# Altium schematic symbol library aiskylab-06IC-01Linear.SchLib: 5 symbols
Pins are listed as number, name and electrical type; pins without a type are passive.

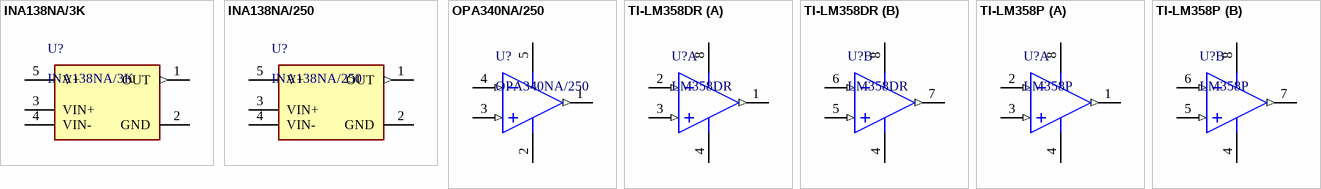
[diagram p0: symbols INA138NA/3K to TI-LM358P]

## INA138NA/3K
designator U?
SP Amp Current Sense Amp Single 36V 5-Pin SOT-23 T/R; Manufacturer: Texas Instruments; Min Supply Voltage: 2.7V; Accuracy: 0.5%; Number of Channels: 1; Common Mode Rejection Ratio: 100dB; Input Offset Voltage (Vos): 1mV; Input Bias Current: 2uA; Bandwidth: 800kHz; Operating Supply Current: 45uA; Supplier 1: Digi-Key; Manufacturer Part Number: INA138NA/3K; RoHS: Yes; Category: Amplifiers - Op Amps, Buffer, Instrumentation; Stock 1: 23833; Pricing 1: 1=1.92000, 10=1.72300, 25=1.62520, 100=1.30000, 250=1.13752, 500=1.10500, 1000=0.87750 (USD); Mount: Surface Mount; Case/Package: SOT-23; Number of Pins: 5; Weight: 0.000617oz; Min Operating Temperature: -40°C; Max Operating Temperature: 125°C; Packaging: Tape and Reel; Max Supply Voltage: 36V; Number of Elements: 1; Max Input Voltage: 36V; Min Input Voltage: 2.7V; Radiation Hardening: No; Lead Free: Lead Free; ComponentLink1URL: https://datasheet.ciiva.com/15128/getdatasheetpartid-247791-15128592.pdf?src-supplier=Verical; ComponentLink1Description: https://datasheet.ciiva.com/15128/getdatasheetpartid-247791-15128592.pdf?src-supplier=Verical; ComponentLink2URL: https://datasheet.ciiva.com/4875/sbos122c-126229-4875393.pdf?src-supplier=Mouser; ComponentLink2Description: https://datasheet.ciiva.com/4875/sbos122c-126229-4875393.pdf?src-supplier=Mouser; ComponentLink3URL: https://datasheet.ciiva.com/27052/1481361-27052273.pdf?src-supplier=Jameco; ComponentLink3Description: https://datasheet.ciiva.com/27052/1481361-27052273.pdf?src-supplier=Jameco; ComponentLink4URL: https://datasheet.ciiva.com/41457/001013568-da-01-en-ic-current-monito-ina138na-3k-sot-5-tid-41457325.pdf?src-supplier=Conrad; ComponentLink4Description: https://datasheet.ciiva.com/41457/001013568-da-01-en-ic-current-monito-ina138na-3k-sot-5-tid-41457325.pdf?src-supplier=Conrad; ComponentLink5URL: https://datasheet.ciiva.com/2975/ina168-2975778.pdf?src-supplier=Avnet; ComponentLink5Description: https://datasheet.ciiva.com/2975/ina168-2975778.pdf?src-supplier=Avnet; ComponentLink6URL: https://datasheet.ciiva.com/2976/ina168-2976437.pdf?src-supplier=Avnet; ComponentLink6Description: https://datasheet.ciiva.com/2976/ina168-2976437.pdf?src-supplier=Avnet; ComponentLink7URL: https://datasheet.ciiva.com/1939/ina138-1939975.pdf?src-supplier=Digi-Key; ComponentLink7Description: https://datasheet.ciiva.com/1939/ina138-1939975.pdf?src-supplier=Digi-Key; ComponentLink8URL: https://datasheet.ciiva.com/1939/ina138-1939976.pdf?src-supplier=Digi-Key; ComponentLink8Description: https://datasheet.ciiva.com/1939/ina138-1939976.pdf?src-supplier=Digi-Key; ComponentLink9URL: https://datasheet.ciiva.com/1939/ina138-1939977.pdf?src-supplier=Digi-Key; ComponentLink9Description: https://datasheet.ciiva.com/1939/ina138-1939977.pdf?src-supplier=Digi-Key; Supplier Part Number 1: 296-17936-1-ND
footprint FP-DBV0005A-IPC_A
footprint FP-DBV0005A-IPC_B
footprint FP-DBV0005A-IPC_C
footprint FP-DBV0005A-MFG
pins: 1 OUT (out), 2 GND (power), 3 VIN+ (power), 4 VIN- (power), 5 V+ (power)

## INA138NA/250
designator U?
TEXAS INSTRUMENTS   INA138NA/250   IC, CURRENT SHUNT MONITOR, FULL REEL; Accuracy: 0.5%; Min Supply Voltage: 2.7V; Max Supply Voltage: 36V; Nominal Supply Current: 25uA; Common Mode Rejection Ratio: 100dB; Number of Channels: 1; Input Offset Voltage (Vos): 1mV; Input Bias Current: 2uA; Bandwidth: 800kHz; Operating Supply Current: 60uA; Supplier 1: Digi-Key; Manufacturer: Texas Instruments; Manufacturer Part Number: INA138NA/250; RoHS: Yes; Category: Amplifiers - Op Amps, Buffer, Instrumentation; Stock 1: 13960; Pricing 1: 1=2.21000, 10=1.98200, 25=1.87000, 100=1.49600 (USD); Mount: Surface Mount; Case/Package: SOT-23; Number of Pins: 5; Weight: 0.000617oz; Min Operating Temperature: -40°C; Max Operating Temperature: 125°C; Packaging: Tape and Reel; Package Quantity: 250; Number of Elements: 1; Number of Amplifiers: 1; Termination: SMD/SMT; Gain Bandwidth Product: 800kHz; Length: 2.9mm; Height: 1.15mm; Width: 1.6mm; Radiation Hardening: No; Lead Free: Lead Free; REACH SVHC: No SVHC; ComponentLink1URL: https://datasheet.ciiva.com/27050/901247-27050771.pdf?src-supplier=Jameco; ComponentLink1Description: https://datasheet.ciiva.com/27050/901247-27050771.pdf?src-supplier=Jameco; ComponentLink2URL: https://datasheet.ciiva.com/15128/getdatasheetpartid-246741-15128581.pdf?src-supplier=Verical; ComponentLink2Description: https://datasheet.ciiva.com/15128/getdatasheetpartid-246741-15128581.pdf?src-supplier=Verical; ComponentLink3URL: https://datasheet.ciiva.com/1484/1786788-1484498.pdf?src-supplier=Element14; ComponentLink3Description: https://datasheet.ciiva.com/1484/1786788-1484498.pdf?src-supplier=Element14; ComponentLink4URL: https://datasheet.ciiva.com/1940/ina138-1940100.pdf?src-supplier=Digi-Key; ComponentLink4Description: https://datasheet.ciiva.com/1940/ina138-1940100.pdf?src-supplier=Digi-Key; ComponentLink5URL: https://datasheet.ciiva.com/1940/ina138-1940098.pdf?src-supplier=Digi-Key; ComponentLink5Description: https://datasheet.ciiva.com/1940/ina138-1940098.pdf?src-supplier=Digi-Key; ComponentLink6URL: https://datasheet.ciiva.com/1940/ina138-1940099.pdf?src-supplier=Digi-Key; ComponentLink6Description: https://datasheet.ciiva.com/1940/ina138-1940099.pdf?src-supplier=Digi-Key; ComponentLink7URL: https://datasheet.ciiva.com/2976/ina168-2976436.pdf?src-supplier=Avnet; ComponentLink7Description: https://datasheet.ciiva.com/2976/ina168-2976436.pdf?src-supplier=Avnet; ComponentLink8URL: https://datasheet.ciiva.com/46407/1786788-46407877.pdf?src-supplier=Element14; ComponentLink8Description: https://datasheet.ciiva.com/46407/1786788-46407877.pdf?src-supplier=Element14; Supplier Part Number 1: INA138NACT-ND
footprint FP-DBV0005A-IPC_A
footprint FP-DBV0005A-IPC_B
footprint FP-DBV0005A-IPC_C
footprint FP-DBV0005A-MFG
pins: 1 OUT (out), 2 GND (power), 3 VIN+ (power), 4 VIN- (power), 5 V+ (power)

## OPA340NA/250
designator U?
GLOVE, POLYAMIDE, L/FREE, PU, SIZE 6 - More Details; Manufacturer: Texas Instruments; Common Mode Rejection Ratio: 80dB; Number of Circuits: 1; Gain Bandwidth Product: 5.5MHz; Voltage Gain: 124dB; Slew Rate: 6V/µs; Input Offset Voltage (Vos): 500uV; Input Bias Current: 10pA; Max Supply Voltage: 5.5V; Min Supply Voltage: 2.5V; Nominal Supply Current: 950uA; Output Current per Channel: 50mA; Power Supply Rejection Ratio (PSRR): 90.46dB; Supplier 1: Digi-Key; Manufacturer Part Number: OPA340NA/250; RoHS: Yes; Category: Amplifiers - Op Amps, Buffer, Instrumentation; Stock 1: 5015; Pricing 1: 1=2.84000, 10=2.54900, 25=2.40520, 100=1.92400 (USD); Case/Package: SOT-23; Number of Pins: 5; Min Operating Temperature: -40°C; Max Operating Temperature: 85°C; Packaging: Tape and Reel; Package Quantity: 250; Number of Channels: 1; Bandwidth: 5.5MHz; Max I/O Voltage: 500uV; Number of Elements: 1; Unity Gain Bandwidth Product: 5.5MHz; Number of Amplifiers: 1; Length: 2.9mm; Height: 1.15mm; Width: 1.6mm; Radiation Hardening: No; Lead Free: Lead Free; REACH SVHC: No SVHC; ComponentLink1URL: https://datasheet.ciiva.com/14667/0900766b802160a6-14667203.pdf?src-supplier=RSComponents; ComponentLink1Description: https://datasheet.ciiva.com/14667/0900766b802160a6-14667203.pdf?src-supplier=RSComponents; ComponentLink2URL: https://datasheet.ciiva.com/7738/1762438-7738624.pdf?src-supplier=Element14; ComponentLink2Description: https://datasheet.ciiva.com/7738/1762438-7738624.pdf?src-supplier=Element14; ComponentLink3URL: https://datasheet.ciiva.com/2974/opa4340-2974001.pdf?src-supplier=Avnet; ComponentLink3Description: https://datasheet.ciiva.com/2974/opa4340-2974001.pdf?src-supplier=Avnet; ComponentLink4URL: https://datasheet.ciiva.com/34301/905272-34301714.pdf?src-supplier=Jameco; ComponentLink4Description: https://datasheet.ciiva.com/34301/905272-34301714.pdf?src-supplier=Jameco; ComponentLink5URL: https://datasheet.ciiva.com/2974/opa4340-2974002.pdf?src-supplier=Avnet; ComponentLink5Description: https://datasheet.ciiva.com/2974/opa4340-2974002.pdf?src-supplier=Avnet; ComponentLink6URL: https://datasheet.ciiva.com/22700/1882729-22700330.pdf?src-supplier=Element14; ComponentLink6Description: https://datasheet.ciiva.com/22700/1882729-22700330.pdf?src-supplier=Element14; ComponentLink7URL: https://datasheet.ciiva.com/1798/opa2340-1798620.pdf?src-supplier=Digi-Key; ComponentLink7Description: https://datasheet.ciiva.com/1798/opa2340-1798620.pdf?src-supplier=Digi-Key; ComponentLink8URL: https://datasheet.ciiva.com/1798/opa2340-1798621.pdf?src-supplier=Digi-Key; ComponentLink8Description: https://datasheet.ciiva.com/1798/opa2340-1798621.pdf?src-supplier=Digi-Key; ComponentLink9URL: https://datasheet.ciiva.com/1798/opa2340-1798622.pdf?src-supplier=Digi-Key; ComponentLink9Description: https://datasheet.ciiva.com/1798/opa2340-1798622.pdf?src-supplier=Digi-Key; ComponentLink10URL: https://datasheet.ciiva.com/26223/opa4340-26223055.pdf?src-supplier=Avnet+Europe; ComponentLink10Description: https://datasheet.ciiva.com/26223/opa4340-26223055.pdf?src-supplier=Avnet+Europe; Supplier Part Number 1: OPA340NACT-ND
footprint FP-DBV0005A-IPC_A
footprint FP-DBV0005A-IPC_B
footprint FP-DBV0005A-IPC_C
footprint FP-DBV0005A-MFG
pins: 1 OUT (out), 2 V- (power), 3 IN+ (in), 4 IN- (in), 5 V+ (power)

## TI-LM358DR
designator U?, comment LM358DR
Dual Operational Amplifier, 3 to 32 V, 0 to 70 degC, 8-Pin SOIC (D), Green (RoHS & no Sb/Br), Tape and Reel; DatasheetVersion: SLOS068T, 04/2015; ComponentLink1URL: http://www.ti.com/; ComponentLink2URL: http://www.ti.com/lit/ds/symlink/lm358.pdf; ComponentLink3Description: Package Specification; Code_JEDEC: MS-012; PackageDescription: 8-Pin Small Outline Integrated Circuit, Body 4.9 x 3.9 mm, Pitch 1.27 mm; ComponentLink2Description: Datasheet; PackageVersion: 4040047-3/M, 06/2011; ComponentLink1Description: Manufacturer URL; ComponentLink3URL: http://www.ti.com/lit/ml/msoi002j/msoi002j.pdf; PackageReference: D0008A
footprint D0008A_L (SOIC, 8-Leads, Body 5x4mm, Pitch 1.27mm, IPC High Density)
pins on every part: 4 GND (power), 8 VCC (power)
part A pins: 1 1OUT (out), 2 1IN- (in), 3 1IN+ (in)
part B pins: 5 2IN+ (in), 6 2IN- (in), 7 2OUT (out)

## TI-LM358P
designator U?, comment LM358P
Dual Operational Amplifier, 3 to 32 V, 0 to 70 degC, 8-Pin PDIP (P), RoHS, Tape and Reel; Manufacturer: Technik Industrial; Datasheet Version: Rev. T, 04/2015; Datasheet URL: http://www.ti.com/lit/ds/symlink/lm358.pdf; Manufacturer URL: http://www.technik.com.hk/; Package Description: 8-Pin Double In-line Package, Body 9.59 x 6.35 mm, Pitch 2.54 mm; Mounting Technology: ThroughHole; Package URL: http://www.ti.com/lit/ml/mpdi001b/mpdi001b.pdf; Package Reference: P8
footprint P0008A (DIP, 8-Leads, Body 10.15x6.6mm, Pitch 2.54mm)
pins on every part: 4 GND (power), 8 VCC (power)
part A pins: 1 1OUT (out), 2 1IN- (in), 3 1IN+ (in)
part B pins: 5 2IN+ (in), 6 2IN- (in), 7 2OUT (out)